# EAGLE library part 79109-12_S (library untitled)
RECEPTACAL
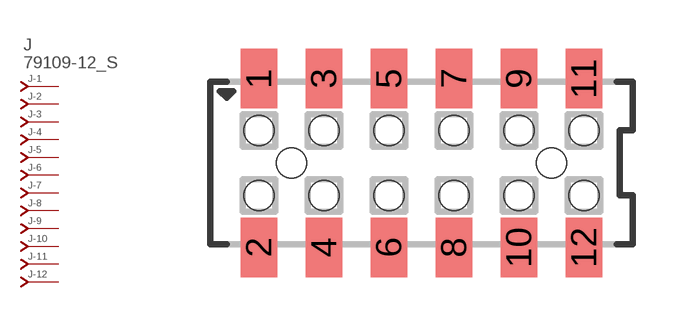
[diagram p262: symbol with the pads of 79109-12; footprint 79109-12]

Designator prefix J; gates -1=J-NV -2=J-N -3=J-N -4=J-N -5=J-N -6=J-N -7=J-N -8=J-N -9=J-N -10=J-N -11=J-N -12=J-N

## 79109-12_S  [79109-12]
1  -1:J  pas
2  -2:J  pas
3  -3:J  pas
4  -4:J  pas
5  -5:J  pas
6  -6:J  pas
7  -7:J  pas
8  -8:J  pas
9  -9:J  pas
10  -10:J  pas
11  -11:J  pas
12  -12:J  pas

## Footprint 79109-12 (pad centres in mm)
RECEPTACAL SMD Dual Row, Vertical, Pass-Thru
smd 1.12 x 1.83: 1 -5,2.6; 2 -5,-2.6; 3 -3,2.6; 4 -3,-2.6; 5 -1,2.6; 6 -1,-2.6; 7 1,2.6; 8 1,-2.6; 9 3,2.6; 10 3,-2.6; 11 5,2.6; 12 5,-2.6
hole 0.914 at -4,0
hole 0.914 at -5,1
hole 0.914 at -5,-1
hole 0.914 at -3,-1
hole 0.914 at -3,1
hole 0.914 at -1,-1
hole 0.914 at -1,1
hole 0.914 at 4,0
hole 0.914 at 1,1
hole 0.914 at 1,-1
hole 0.914 at 3,1
hole 0.914 at 3,-1
hole 0.914 at 5,1
hole 0.914 at 5,-1